# Altium schematic symbol library M24128-BWMN6TP.SchLib: 1 symbol
Pins are listed as number, name and electrical type; pins without a type are passive.

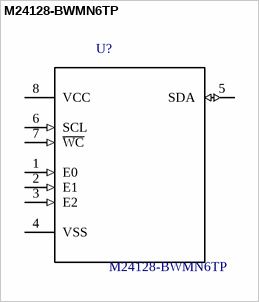
[diagram p0: symbol M24128-BWMN6TP]

## M24128-BWMN6TP
designator U?
BuyPart: https://www.snapeda.com/parts/M24128-BWMN6TP/STMicroelectronics/view-part/1043181/?ref=eda; SnapEDA_Link: https://www.snapeda.com/parts/M24128-BWMN6TP/STMicroelectronics/view-part/1043181/?ref=snap; Value: *
footprint *SOIC127P600X175-8N
pins: 1 E0 (in), 2 E1 (in), 3 E2 (in), 4 VSS, 5 SDA (io), 6 SCL (in), 7 ~{WC} (in), 8 VCC (power)